# EAGLE library part DRV8301 (library IC_Power-Management)
Three-Phase Gate Driver With Dual Current Shunt Amplifiers and Buck Regulator Datasheet <http://www.ti.com/lit/ds/symlink/drv8301.pdf>
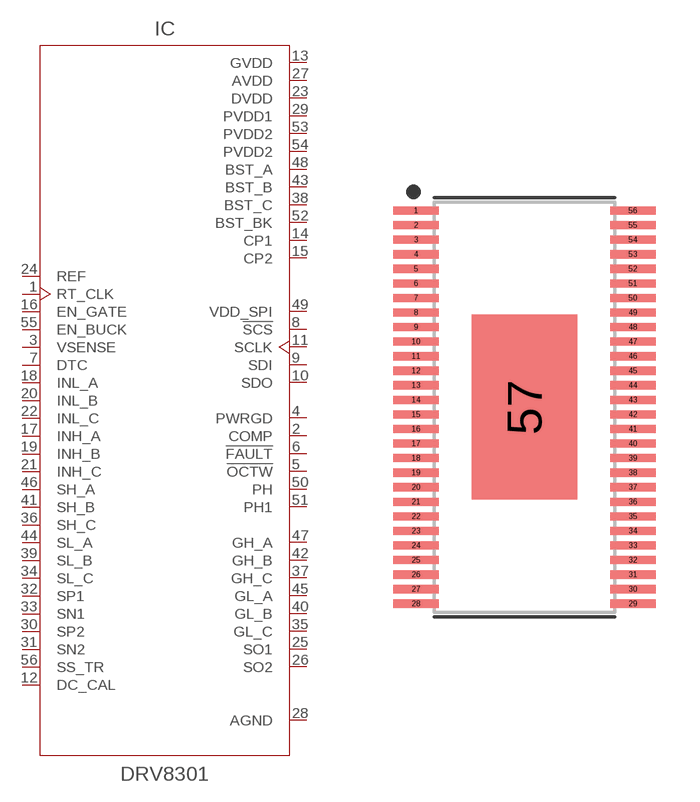
[diagram p19: symbol with the pads of SOP50P810X120-57T361X635N; footprint SOP50P810X120-57T361X635N]

Designator prefix IC

## DRV8301PDSO (CATEGORY: IC_Power-Management; MANUFACTURER: TI; MPN: DRV8301; OPERATING_TEMP: -40 to +125 °C; PART_STATUS: Active; ROHS_COMPLIANT: Compliant; SUB-CATEGORY: Driver; VALUE: DRV8301)  [SOP50P810X120-57T361X635N]
1  RT_CLK  in
2  COMP  out
3  VSENSE  in
4  PWRGD  out
5  !OCTW  out
6  !FAULT  out
7  DTC  in
8  !SCS  in
9  SDI  in
10  SDO  out
11  SCLK  in
12  DC_CAL  in
13  GVDD  pwr
14  CP1  pwr
15  CP2  pwr
16  EN_GATE  in
17  INH_A  in
18  INL_A  in
19  INH_B  in
20  INL_B  in
21  INH_C  in
22  INL_C  in
23  DVDD  pwr
24  REF  in
25  SO1  out
26  SO2  out
27  AVDD  pwr
28  AGND  pwr
29  PVDD1  pwr
30  SP2  in
31  SN2  in
32  SP1  in
33  SN1  in
34  SL_C  in
35  GL_C  out
36  SH_C  in
37  GH_C  out
38  BST_C  pwr
39  SL_B  in
40  GL_B  out
41  SH_B  in
42  GH_B  out
43  BST_B  pwr
44  SL_A  in
45  GL_A  out
46  SH_A  in
47  GH_A  out
48  BST_A  pwr
49  VDD_SPI  in
50  PH  out
51  PH1  out
52  BST_BK  pwr
53  PVDD2  pwr
54  PVDD2  pwr
55  EN_BUCK  in
56  SS_TR  in

## Footprint SOP50P810X120-57T361X635N (pad centres in mm)
56-SOP, 0.50 mm pitch, 8.10 mm span, 14.00 X 6.10 X 1.20 mm body, 6.35 X 3.61 mm thermal pad 56-pin SOP package with 0.50 mm pitch, 8.10 mm span with body size 14.00 X 6.10 X 1.20 mm and thermal pad size 6.35 X 3.61 mm
smd 1.572 x 0.28: 1 -3.722,6.75; 2 -3.722,6.25; 3 -3.722,5.75; 4 -3.722,5.25; 5 -3.722,4.75; 6 -3.722,4.25; 7 -3.722,3.75; 8 -3.722,3.25; 9 -3.722,2.75; 10 -3.722,2.25; 11 -3.722,1.75; 12 -3.722,1.25; 13 -3.722,0.75; 14 -3.722,0.25; 15 -3.722,-0.25; 16 -3.722,-0.75; 17 -3.722,-1.25; 18 -3.722,-1.75; 19 -3.722,-2.25; 20 -3.722,-2.75; 21 -3.722,-3.25; 22 -3.722,-3.75; 23 -3.722,-4.25; 24 -3.722,-4.75; 25 -3.722,-5.25; 26 -3.722,-5.75; 27 -3.722,-6.25; 28 -3.722,-6.75; 29 3.722,-6.75; 30 3.722,-6.25; 31 3.722,-5.75; 32 3.722,-5.25; 33 3.722,-4.75; 34 3.722,-4.25; 35 3.722,-3.75; 36 3.722,-3.25; 37 3.722,-2.75; 38 3.722,-2.25; 39 3.722,-1.75; 40 3.722,-1.25; 41 3.722,-0.75; 42 3.722,-0.25; 43 3.722,0.25; 44 3.722,0.75; 45 3.722,1.25; 46 3.722,1.75; 47 3.722,2.25; 48 3.722,2.75; 49 3.722,3.25; 50 3.722,3.75; 51 3.722,4.25; 52 3.722,4.75; 53 3.722,5.25; 54 3.722,5.75; 55 3.722,6.25; 56 3.722,6.75
smd 3.61 x 6.35: 57 0,0